# Altium integrated library lib_cree.IntLib: 1 symbol
Pins are listed as number, name and electrical type; pins without a type are passive.

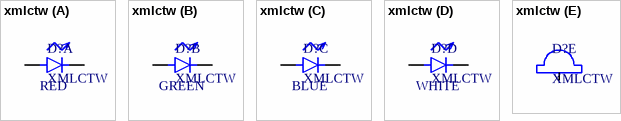
[diagram p0: symbol xmlctw]

## xmlctw
designator D?, comment XMLCTW
footprint PSON125P500X302_HS-9N (PSON, 8-Leads, Body 5,00x5,00mm, Pitch 1,25mm, Thermal Pad 4,85x2,79mm, IPC Medium Density)
part A pins: RA, RC
part B pins: GA, GC
part C pins: BA, BC
part D pins: WA, WC
part E pins: 9 PAD
part A text: RED
part B text: GREEN
part C text: BLUE
part D text: WHITE